# EAGLE library part WS2822S (library DECADE-libraries20151104)
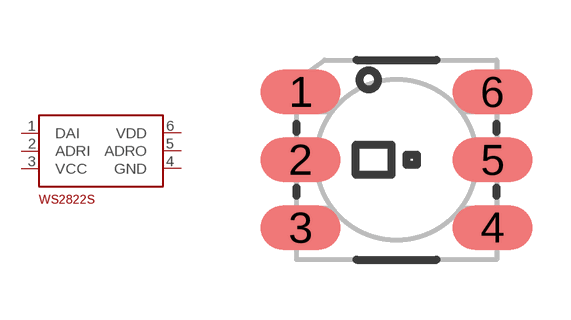
[diagram p115: symbol with the pads of LED-TRICOLOR-5050-IC; footprint LED-TRICOLOR-5050-IC]

Designator prefix -

## WS2822S  [LED-TRICOLOR-5050-IC]
1  DAI
2  ADRI
3  VCC
4  GND
5  ADRO
6  VDD

## Footprint LED-TRICOLOR-5050-IC (pad centres in mm)
smd 2 x 1.1: 1 -2.4,1.7; 2 -2.4,0; 3 -2.4,-1.7; 4 2.4,-1.7; 5 2.4,0; 6 2.4,1.7